# Altium footprint library QuartzFootprint.PcbLib: 1 footprints
Each footprint in its own frame and in the unit in brackets; x right, y up, seen from the top. Pads: shape width x height; smd on the part's side, far side on the other; paste and mask are expansions set on the pad; w line width, h text height; cw(c..) or ccw(c..) is an arc to the next point about the centre after c.
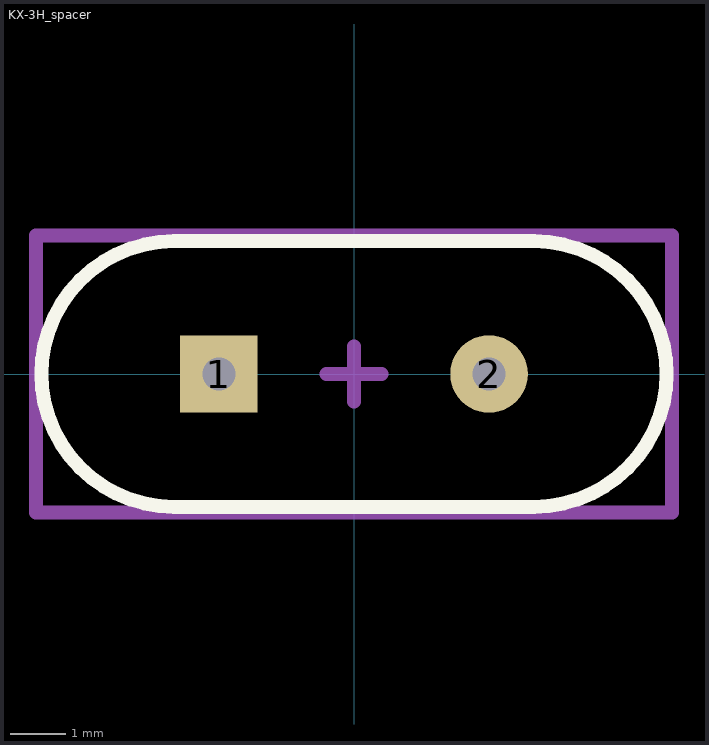
[diagram p0: the footprint, top view; thin cyan lines are the x and y axes]

## KX-3H_spacer [mm] "Quartz resonator with spacer"
height 4.4
pads (2):
  rect 1.4x1.4 hole 0.6: 1(-2.44,0)
  round 1.4 hole 0.6: 2(2.44,0)
Top Overlay:
  lines w0.254: -3.25,-2.4 cw(c-3.25,0) -3.25,2.4 3.25,2.4 cw(c3.25,0) 3.25,-2.4 -3.25,-2.4
Mechanical 15 (Mech15):
  lines w0.254: -0.5,0 0.5,0 ; 0,-0.5 0,0.5 ; -5.75,-2.5 5.75,-2.5 5.75,2.5 -5.75,2.5 -5.75,-2.5
3D body "KX-3H с прокладкой.stp": height 4.6, standoff -3.1, extent -5.68,-2.5 5.68,2.5